# EAGLE library part MKL28Z512VLL7 (library lib_stankus)
Freescale MKL28Z512VLL7
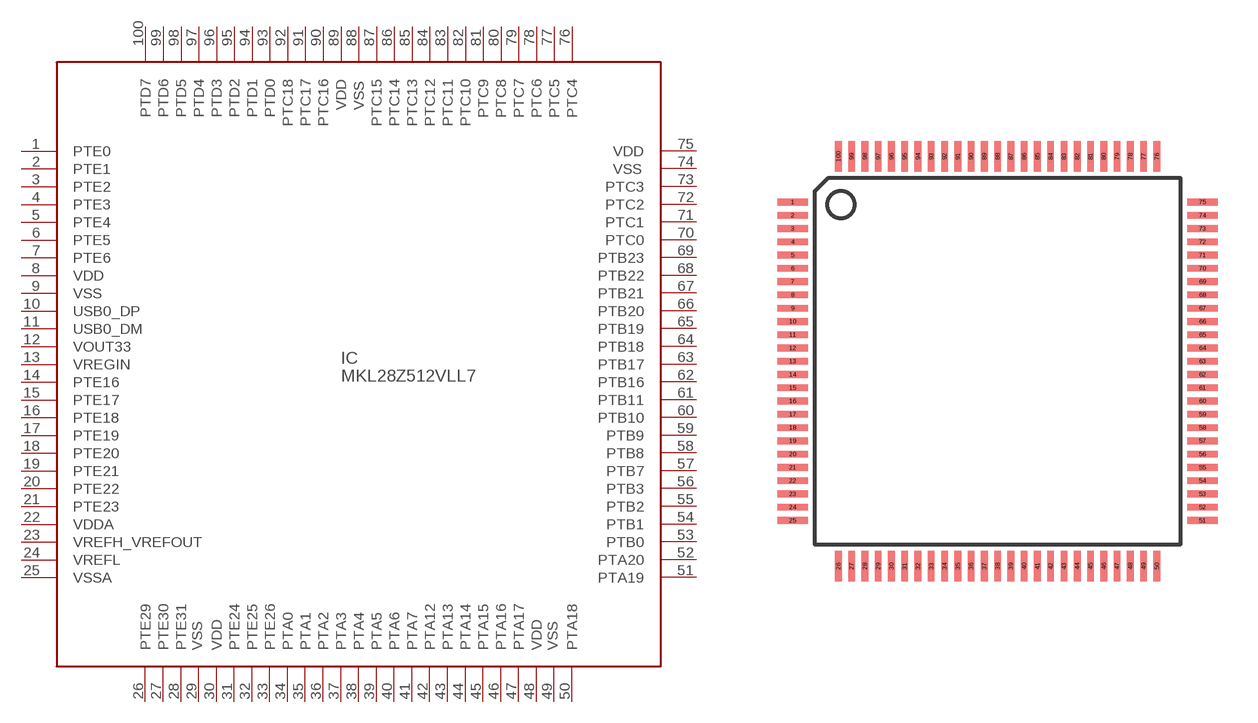
[diagram p114: symbol with the pads of QFP100_14_05; footprint QFP100_14_05]

Designator prefix IC

## MKL28Z512VLL7-QFP100  [QFP100_14_05]
1  PTE0  pas
2  PTE1  pas
3  PTE2  pas
4  PTE3  pas
5  PTE4  pas
6  PTE5  pas
7  PTE6  pas
8  VDD  pas
9  VSS  pas
10  USB0_DP  pas
11  USB0_DM  pas
12  VOUT33  pas
13  VREGIN  pas
14  PTE16  pas
15  PTE17  pas
16  PTE18  pas
17  PTE19  pas
18  PTE20  pas
19  PTE21  pas
20  PTE22  pas
21  PTE23  pas
22  VDDA  pas
23  VREFH_VREFOUT  pas
24  VREFL  pas
25  VSSA  pas
26  PTE29  pas
27  PTE30  pas
28  PTE31  pas
29  VSS  pas
30  VDD  pas
31  PTE24  pas
32  PTE25  pas
33  PTE26  pas
34  PTA0  pas
35  PTA1  pas
36  PTA2  pas
37  PTA3  pas
38  PTA4  pas
39  PTA5  pas
40  PTA6  pas
41  PTA7  pas
42  PTA12  pas
43  PTA13  pas
44  PTA14  pas
45  PTA15  pas
46  PTA16  pas
47  PTA17  pas
48  VDD  pas
49  VSS  pas
50  PTA18  pas
51  PTA19  pas
52  PTA20  pas
53  PTB0  pas
54  PTB1  pas
55  PTB2  pas
56  PTB3  pas
57  PTB7  pas
58  PTB8  pas
59  PTB9  pas
60  PTB10  pas
61  PTB11  pas
62  PTB16  pas
63  PTB17  pas
64  PTB18  pas
65  PTB19  pas
66  PTB20  pas
67  PTB21  pas
68  PTB22  pas
69  PTB23  pas
70  PTC0  pas
71  PTC1  pas
72  PTC2  pas
73  PTC3  pas
74  VSS  pas
75  VDD  pas
76  PTC4  pas
77  PTC5  pas
78  PTC6  pas
79  PTC7  pas
80  PTC8  pas
81  PTC9  pas
82  PTC10  pas
83  PTC11  pas
84  PTC12  pas
85  PTC13  pas
86  PTC14  pas
87  PTC15  pas
88  VSS  pas
89  VDD  pas
90  PTC16  pas
91  PTC17  pas
92  PTC18  pas
93  PTD0  pas
94  PTD1  pas
95  PTD2  pas
96  PTD3  pas
97  PTD4  pas
98  PTD5  pas
99  PTD6  pas
100  PTD7  pas

## Footprint QFP100_14_05 (pad centres in mm)
QFP100, 14x14 MM, 0.5 MM
smd 1.143 x 0.254: 1 -7.72,6; 2 -7.72,5.5; 3 -7.72,5; 4 -7.72,4.5; 5 -7.72,4; 6 -7.72,3.5; 7 -7.72,3; 8 -7.72,2.5; 9 -7.72,2; 10 -7.72,1.5; 11 -7.72,1; 12 -7.72,0.5; 13 -7.72,0; 14 -7.72,-0.5; 15 -7.72,-1; 16 -7.72,-1.5; 17 -7.72,-2; 18 -7.72,-2.5; 19 -7.72,-3; 20 -7.72,-3.5; 21 -7.72,-4; 22 -7.72,-4.5; 23 -7.72,-5; 24 -7.72,-5.5; 25 -7.72,-6; 51 7.72,-6; 52 7.72,-5.5; 53 7.72,-5; 54 7.72,-4.5; 55 7.72,-4; 56 7.72,-3.5; 57 7.72,-3; 58 7.72,-2.5; 59 7.72,-2; 60 7.72,-1.5; 61 7.72,-1; 62 7.72,-0.5; 63 7.72,0; 64 7.72,0.5; 65 7.72,1; 66 7.72,1.5; 67 7.72,2; 68 7.72,2.5; 69 7.72,3; 70 7.72,3.5; 71 7.72,4; 72 7.72,4.5; 73 7.72,5; 74 7.72,5.5; 75 7.72,6
smd 0.254 x 1.143: 26 -6,-7.72; 27 -5.5,-7.72; 28 -5,-7.72; 29 -4.5,-7.72; 30 -4,-7.72; 31 -3.5,-7.72; 32 -3,-7.72; 33 -2.5,-7.72; 34 -2,-7.72; 35 -1.5,-7.72; 36 -1,-7.72; 37 -0.5,-7.72; 38 0,-7.72; 39 0.5,-7.72; 40 1,-7.72; 41 1.5,-7.72; 42 2,-7.72; 43 2.5,-7.72; 44 3,-7.72; 45 3.5,-7.72; 46 4,-7.72; 47 4.5,-7.72; 48 5,-7.72; 49 5.5,-7.72; 50 6,-7.72; 76 6,7.72; 77 5.5,7.72; 78 5,7.72; 79 4.5,7.72; 80 4,7.72; 81 3.5,7.72; 82 3,7.72; 83 2.5,7.72; 84 2,7.72; 85 1.5,7.72; 86 1,7.72; 87 0.5,7.72; 88 0,7.72; 89 -0.5,7.72; 90 -1,7.72; 91 -1.5,7.72; 92 -2,7.72; 93 -2.5,7.72; 94 -3,7.72; 95 -3.5,7.72; 96 -4,7.72; 97 -4.5,7.72; 98 -5,7.72; 99 -5.5,7.72; 100 -6,7.72